# Altium footprint library 零散封装.PcbLib: 22 footprints (part 1 of 2)
Each footprint in its own frame and in the unit in brackets; x right, y up, seen from the top. Pads: shape width x height; smd on the part's side, far side on the other; paste and mask are expansions set on the pad; w line width, h text height; cw(c..) or ccw(c..) is an arc to the next point about the centre after c.
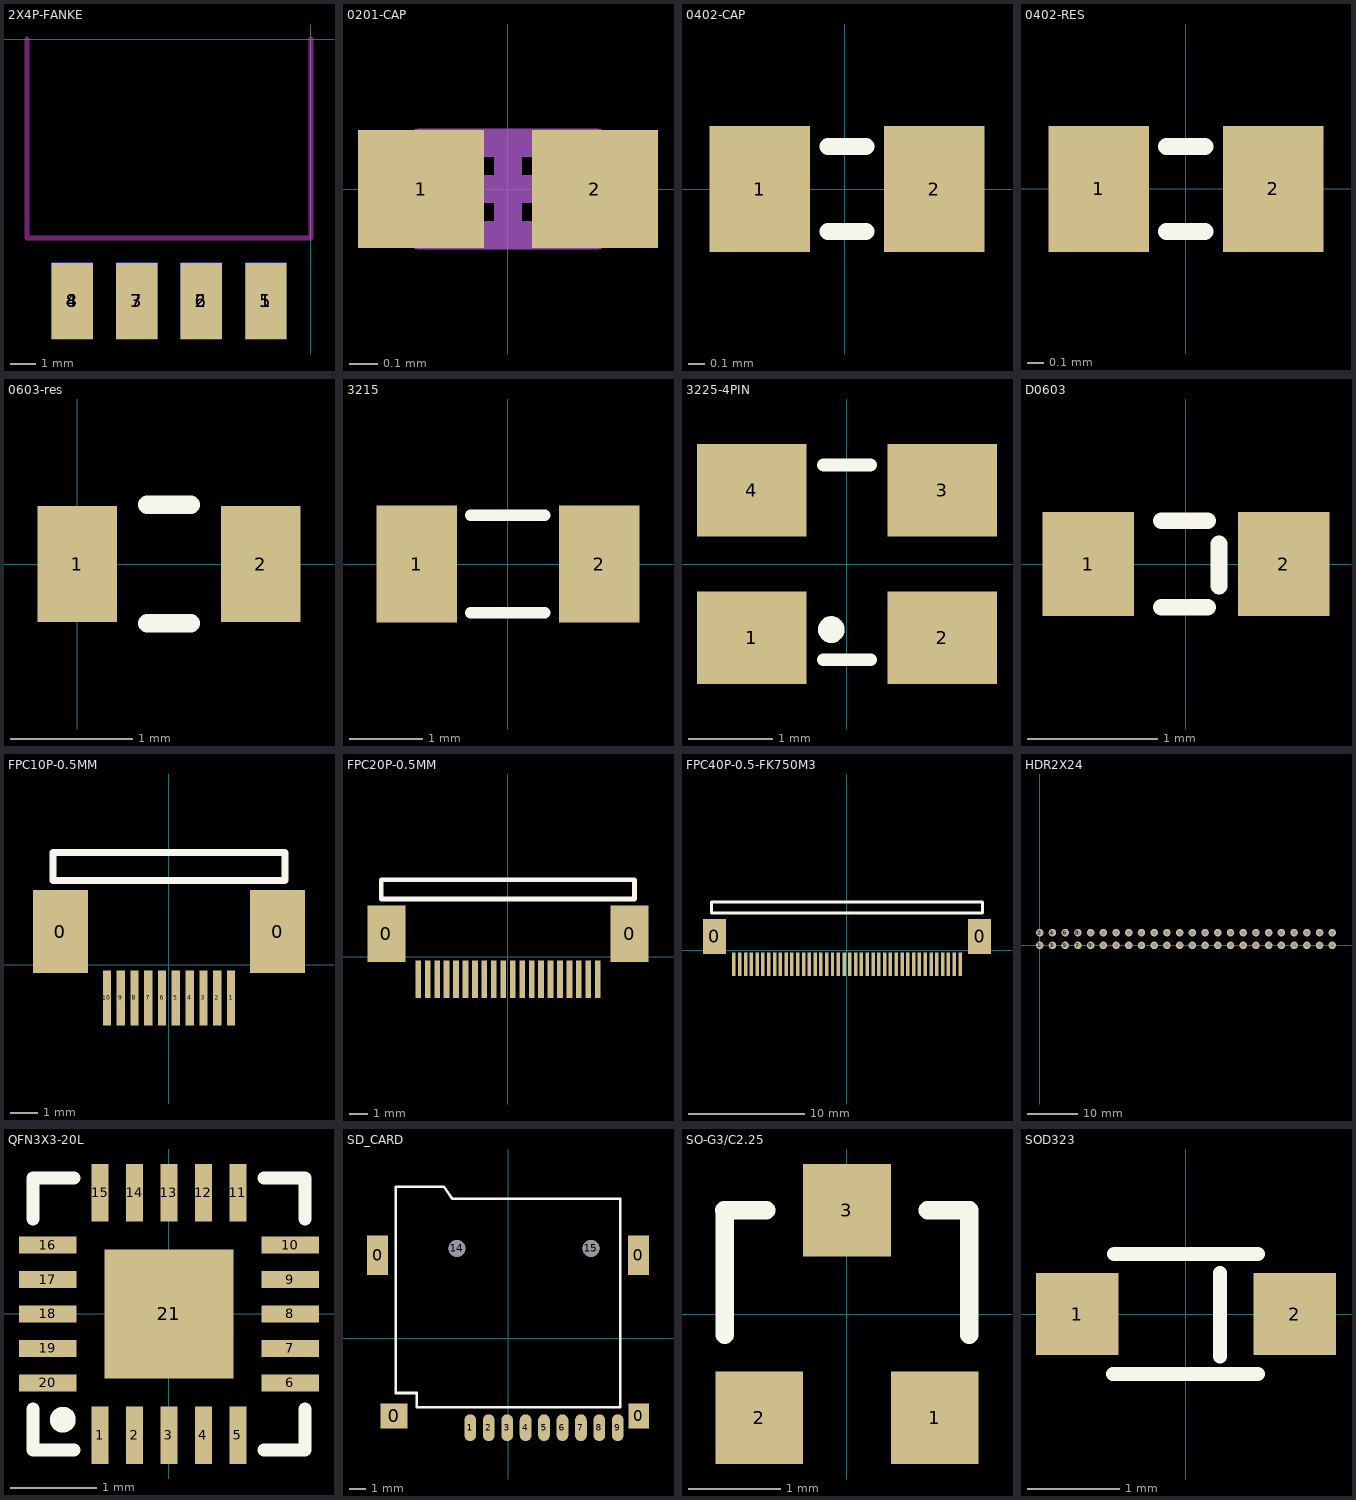
[diagram p0: the footprints below, top view; thin cyan lines are the x and y axes]

## 2X4P-FANKE [mm]
pads (8):
  rect 1.62x3 smd: 1(-1.776,-10.309) 2(-4.316,-10.309) 3(-6.856,-10.309) 4(-9.396,-10.309)
  rect 1.62x3 smd far side: 5(-1.776,-10.309) 6(-4.316,-10.309) 7(-6.856,-10.309) 8(-9.396,-10.309)
Keep-Out Layer:
  lines w0.203: -11.176,0 -11.176,-7.833 0,-7.833 0,0
3D body "User Library-2_54mm Male Header (4x2).STEP": height 1.84, standoff -3.14, extent -10.666,-11.614 -0.506,-0.074

## 0201-CAP [mm]
height 0.3
pads (2):
  rect 0.45x0.42 smd: 1(-0.31,0) 2(0.31,0)
Mechanical 13:
  lines w0.1: -0.315,-0.165 -0.315,0.165 0.315,0.165 0.315,-0.165 -0.315,-0.165
Mechanical 15:
  lines w0.1: -0.165,0 0.165,0 ; 0,-0.165 0,0.165
3D body "0201-CAP.step": height 0.3, standoff 0, extent -0.315,-0.165 0.315,0.165

## 0402-CAP [mm] "Chip Capacitor, 2-Leads, Body 1.00x0.50mm, IPC Medium Density"
height 0.5
pads (2):
  rect 0.6x0.75 smd: 1(-0.508,0) 2(0.533,0)
Top Overlay:
  lines w0.102: -0.102,-0.254 0.127,-0.254 ; -0.102,0.254 0.127,0.254
3D body "CAPCP1005X05N.step": height 0.5, standoff 0, extent -0.525,-0.275 0.525,0.275

## 0402-RES [mm] "Chip Resistor, 2-Leads, Body 1.00x0.50mm, IPC Medium Density"
height 0.5
pads (2):
  rect 0.6x0.75 smd: 1(-0.52,0) 2(0.521,0)
Top Overlay:
  lines w0.102: -0.116,-0.254 0.113,-0.254 ; -0.116,0.254 0.113,0.254
3D body "RESC1005X05N.step": height 0.5, standoff 0, extent -0.54,-0.275 0.51,0.275

## 0603-res [mm]
height 0.35
pads (2):
  rect 0.65x0.95 smd: 1(0,0) 2(1.5,0)
Top Overlay:
  lines w0.152: 0.572,-0.483 0.928,-0.483 ; 0.572,0.483 0.928,0.483
3D body "0603-res.step": height 0.35, standoff 0, extent -0.125,-0.475 1.625,0.475

## 3215 [mm]
pads (2):
  rect 1.1x1.6 smd: 1(-1.25,0) 2(1.25,0)
Top Overlay:
  lines w0.152: -0.513,-0.666 0.503,-0.666 ; -0.513,0.666 0.503,0.666
3D body "CRYTAL-SMD-SX3215.STEP": height 0.81, standoff 0, extent -1.6,-0.75 1.6,0.75

## 3225-4PIN [mm]
pads (4):
  rect 1.3x1.1 smd: 1(-1.131,-0.877) 2(1.132,-0.877) 3(1.132,0.878) 4(-1.131,0.878)
Top Overlay:
  circle w0.203: c-0.186,-0.779 r0.057
  lines w0.152: -0.281,-1.138 0.278,-1.138 ; -0.281,1.176 0.278,1.176
3D body "CRYTAL-SMD-SX3225.STEP": height 0.81, standoff 0, extent -1.613,-1.232 1.587,1.268

## D0603 [mm]
pads (2):
  rect 0.7x0.8 smd: 1(-0.75,0) 2(0.75,0)
Top Overlay:
  lines w0.127: -0.19,-0.333 0.165,-0.333 ; -0.19,0.333 0.165,0.333 ; 0.253,-0.17 0.253,0.154
3D body "LED-0603.STEP": height 0.52, standoff -0.03, extent -0.851,-0.387 0.8,0.413

## FPC10P-0.5MM [mm]
pads (12):
  rect 2x3 smd: 0(-3.936,1.202) 0(3.936,1.202)
  rect 0.3x2 smd: 1(2.25,-1.202) 2(1.75,-1.202) 3(1.25,-1.202) 4(0.75,-1.202) 5(0.25,-1.202) 6(-0.25,-1.202) 7(-0.75,-1.202) 8(-1.25,-1.202) 9(-1.75,-1.202) 10(-2.25,-1.202)
Top Overlay:
  lines w0.254: -4.201,3.049 4.199,3.049 4.199,4.065 -4.201,4.065 -4.201,3.049
3D body "FPC-10P0.5mm.stp": height 2, standoff 0, extent -4.499,-1.901 4.499,4.105

## FPC20P-0.5MM [mm]
pads (22):
  rect 2x3 smd: 0(-6.436,1.202) 0(6.436,1.202)
  rect 0.3x2 smd: 1(4.75,-1.202) 2(4.25,-1.202) 3(3.75,-1.202) 4(3.25,-1.202) 5(2.75,-1.202) 6(2.25,-1.202) 7(1.75,-1.202) 8(1.25,-1.202) 9(0.75,-1.202) 10(0.25,-1.202) 11(-0.25,-1.202) 12(-0.75,-1.202) 13(-1.25,-1.202) 14(-1.75,-1.202) 15(-2.25,-1.202) 16(-2.75,-1.202) 17(-3.25,-1.202) 18(-3.75,-1.202) 19(-4.25,-1.202) 20(-4.75,-1.202)
Top Overlay:
  lines w0.254: -6.701,3.049 6.699,3.049 6.699,4.065 -6.701,4.065 -6.701,3.049
3D body "FPC-20P0.5mm.stp": height 2.1, standoff 0.1, extent -7.2,-1.888 7.2,4.012

## FPC40P-0.5-FK750M3 [mm] "两边固定焊盘改小适应M3板子"
pads (42):
  rect 2x3 smd: 0(-11.436,1.202) 0(11.436,1.202)
  rect 0.3x2 smd: 1(9.75,-1.202) 2(9.25,-1.202) 3(8.75,-1.202) 4(8.25,-1.202) 5(7.75,-1.202) 6(7.25,-1.202) 7(6.75,-1.202) 8(6.25,-1.202) 9(5.75,-1.202) 10(5.25,-1.202) 11(4.75,-1.202) 12(4.25,-1.202) 13(3.75,-1.202) 14(3.25,-1.202) 15(2.75,-1.202) 16(2.25,-1.202) 17(1.75,-1.202) 18(1.25,-1.202) 19(0.75,-1.202) 20(0.25,-1.202) 21(-0.25,-1.202) 22(-0.75,-1.202) 23(-1.25,-1.202) 24(-1.75,-1.202) 25(-2.25,-1.202) 26(-2.75,-1.202) 27(-3.25,-1.202) 28(-3.75,-1.202) 29(-4.25,-1.202) 30(-4.75,-1.202) 31(-5.25,-1.202) 32(-5.75,-1.202) 33(-6.25,-1.202) 34(-6.75,-1.202) 35(-7.25,-1.202) 36(-7.75,-1.202) 37(-8.25,-1.202) 38(-8.75,-1.202) 39(-9.25,-1.202) 40(-9.75,-1.202)
Top Overlay:
  lines w0.254: -11.701,3.24 -11.701,4.165 11.699,4.165 11.699,3.24 -11.701,3.24
3D body "User Library-FPC-40-2.STEP": height 2, standoff 0.05, extent -12.201,-1.755 12.199,4.545

## HDR2X24 [mm] "Connector; Header; 24x2 Position"
pads (48):
  round 1.5 hole 0.9: 1(0,0) 2(0,2.54) 3(2.54,0) 4(2.54,2.54) 5(5.08,0) 6(5.08,2.54) 7(7.62,0) 8(7.62,2.54) 9(10.16,0) 10(10.16,2.54) 11(12.7,0) 12(12.7,2.54) 13(15.24,0) 14(15.24,2.54) 15(17.78,0) 16(17.78,2.54) 17(20.32,0) 18(20.32,2.54) 19(22.86,0) 20(22.86,2.54) 21(25.4,0) 22(25.4,2.54) 23(27.94,0) 24(27.94,2.54) 25(30.48,0) 26(30.48,2.54) 27(33.02,0) 28(33.02,2.54) 29(35.56,0) 30(35.56,2.54) 31(38.1,0) 32(38.1,2.54) 33(40.64,0) 34(40.64,2.54) 35(43.18,0) 36(43.18,2.54) 37(45.72,0) 38(45.72,2.54) 39(48.26,0) 40(48.26,2.54) 41(50.8,0) 42(50.8,2.54) 43(53.34,0) 44(53.34,2.54) 45(55.88,0) 46(55.88,2.54) 47(58.42,0) 48(58.42,2.54)

## QFN3X3-20L [mm]
pads (21):
  rect 0.2x0.665 smd: 1(-0.8,-1.407) 2(-0.4,-1.407) 3(0,-1.407) 4(0.4,-1.407) 5(0.8,-1.407) 11(0.8,1.407) 12(0.4,1.407) 13(0,1.407) 14(-0.4,1.407) 15(-0.8,1.407)
  rect 0.665x0.2 smd: 6(1.407,-0.8) 7(1.407,-0.4) 8(1.407,0) 9(1.407,0.4) 10(1.407,0.8) 16(-1.407,0.8) 17(-1.407,0.4) 18(-1.407,0) 19(-1.407,-0.4) 20(-1.407,-0.8)
  rect 1.5x1.5 smd: 21(0,0)
Top Overlay:
  circle w0.15: c-1.232,-1.226 r0.075
  lines w0.152: -1.576,-1.103 -1.576,-1.576 -1.103,-1.576 ; -1.576,1.103 -1.576,1.576 -1.103,1.576 ; 1.103,-1.576 1.576,-1.576 1.576,-1.103 ; 1.103,1.576 1.576,1.576 1.576,1.103
3D body: height 0.75, standoff 0, extent -1.524,-1.524 1.524,1.524

## SD_CARD [mm]
pads (15):
  rect 1.25x2.35 smd: 0(-7.788,4.95) 0(7.763,4.95)
  rect 1.6x1.5 smd: 0(-6.813,-4.65)
  rect 1.2x1.5 smd: 0(7.788,-4.65)
  oval 0.7x1.6 smd: 1(-2.262,-5.35) 2(-1.162,-5.35) 3(-0.062,-5.35) 4(1.038,-5.35) 5(2.138,-5.35) 6(3.237,-5.35) 7(4.337,-5.35) 8(5.437,-5.35) 9(6.538,-5.35)
  round 1 hole 1: 14(-3.063,5.35) 15(4.938,5.35)
Top Overlay:
  lines w0.152: -6.709,-3.279 -6.709,9.021 -3.839,9.021 -3.343,8.303 6.69,8.303 6.69,-4.129 -5.459,-4.129 -5.459,-3.279 -6.709,-3.279
3D body "SDcard.STEP": height 2.25, standoff -0.2, extent -8.009,-5.879 7.991,9.371

## SO-G3/C2.25 [mm] "SOT-23; 3 Leads; Body 3.0 x 2.5 mm, inc. leads (LxW max)"
height 1.2
pads (3):
  rect 0.95x1 smd: 1(0.95,-1.125) 2(-0.95,-1.125) 3(0,1.125)
Top Overlay:
  lines w0.2: -1.328,1.125 -0.875,1.125 ; -1.325,-0.225 -1.325,1.125 ; 0.875,1.125 1.325,1.125 1.325,-0.225
3D body "SOT-23.STEP": height 1.11, standoff 0.01, extent -1.503,-1.26 1.498,1.24

## SOD323 [mil] "SODFL, 2-Leads, Body 1.30x2.60mm, IPC Medium Density"
height 39.37
pads (2):
  rect 35x35 smd: 1(-46.26,0) 2(46.26,0)
Top Overlay:
  lines w6: -31,-25.5 30.5,-25.5 ; -30.5,25.5 30.5,25.5 ; 14.44,-18 14.44,17.5
3D body "SOD323.step": height 39.37, standoff 0, extent -51.18,-27.56 51.18,27.56